# EAGLE library part G2X[1/5]2---PW20 (library TI_MSP430_v16)
MSP430G2X[1/5]2 MSP430G2x52, MSP430G2x12 TSSOP (PW) 20 Pin Package http://focus.ti.com/docs/prod/folders/print/msp430g2452.html
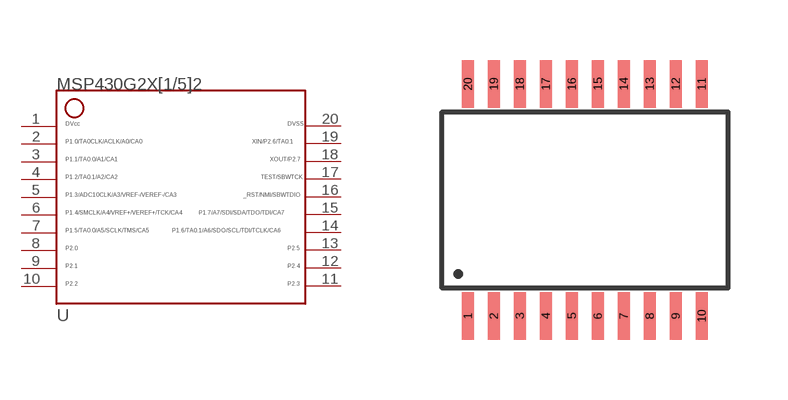
[diagram p137: symbol with the pads of PW20; footprint PW20]

Designator prefix -

## G2X[1/5]2---PW20  [PW20]
1  1_DVCC
2  2_1.0
3  3_1.1
4  4_1.2
5  5_1.3
6  6_1.4
7  7_1.5
8  8_2.0
9  9_2.1
10  10_2.2
11  11_2.3
12  12_2.4
13  13_2.5
14  14_1.6
15  15_1.7
16  16_RST
17  17_TEST
18  18_XOUT
19  19_XIN
20  20_DVSS

## Footprint PW20 (pad centres in mm)
*** TI: PW *** JEDEC: R-PDSO-G20 *** 20 PINS ***
smd 0.3 x 1.2: 1 -2.925,-2.9; 2 -2.275,-2.9; 3 -1.625,-2.9; 4 -0.975,-2.9; 5 -0.325,-2.9; 6 0.325,-2.9; 7 0.975,-2.9; 8 1.625,-2.9; 9 2.275,-2.9; 10 2.925,-2.9; 11 2.925,2.9; 12 2.275,2.9; 13 1.625,2.9; 14 0.975,2.9; 15 0.325,2.9; 16 -0.325,2.9; 17 -0.975,2.9; 18 -1.625,2.9; 19 -2.275,2.9; 20 -2.925,2.9